# Altium schematic symbol library CDBMT2100-HF.SchLib: 1 symbol
Pins are listed as number, name and electrical type; pins without a type are passive.

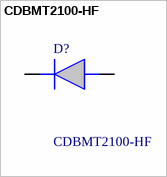
[diagram p0: symbol CDBMT2100-HF]

## CDBMT2100-HF
designator D?
Schottky Diodes & Rectifiers Schottky 2A 100V; Manufacturer_Name: Comchip Technology; Geometry.Height: 1mm; Mouser Part Number: 750-CDBMT2100-HF; Mouser Price/Stock: https://www.mouser.co.uk/ProductDetail/Comchip-Technology/CDBMT2100-HF?qs=1bLIX8ysQDALloA%2Fk2OVqg%3D%3D; Manufacturer_Part_Number: CDBMT2100-HF; Datasheet Link: https://componentsearchengine.com/Datasheets/1/CDBMT2100-HF.pdf
footprint SODFL3516X100N
pins: 1 K, 2 A